# Altium integrated library Infineon_Power_MOSFET.IntLib: 1448 symbols (part 47 of 47)
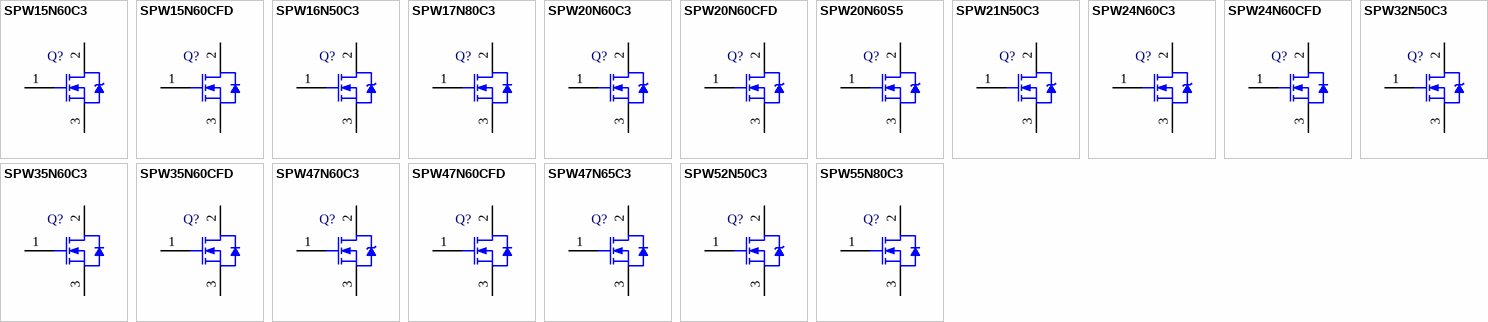
[diagram p83: symbols SPW15N60C3 to SPW55N80C3]

## SPW24N60C3
designator Q?
N-Channel CoolMOS Power-Transistor, 600 V VDS, 24.3 A ID, -55 to 150 degC, PG-TO247-3-44, Tube, Green; Manufacturer: Infineon; PartNumber: SPW24N60C3; Green: TRUE; ID (max): 24.3 A; IDpuls (max): 72.9 A; Polarity: N; Ptot (max): 240 W; QG: 104.9 nC; RDS (on) (max): 160 mOhm; Rth: 0.52 K/W; RthJA (max): 62 K/W; VDS (max): 600 V; VGS(th) (max): 3.9 V; VGS(th) (min): 2.1 V; DatasheetVersion: Rev. 2.5; PackageVersion: Rev. 03; PackageReference: PG-TO247-3-44; PackageDescription: 3-Pin Plastic (Green) Transistor Single Outline Package, 15.94 x 20.95 mm Body, 5.44 mm Pitch; Supplier 1: Mouser; Supplier Part Number 1: 726-SPW24N60C3; Supplier 2: Digi-Key; Supplier Part Number 2: SPW24N60C3IN-ND; Halogen-free: available; Packing: Tube; RthJC (max): 0.52 K/W; Technology: CoolMOS C3; Mounting Technology: Through Hole; ComponentLink1Description: Manufacturer URL; ComponentLink1URL: http://www.infineon.com/; ComponentLink2Description: Datasheet; ComponentLink2URL: http://www.infineon.com/dgdl/SPW24N60C3_Rev%5B1%5D.2.5_PCN.pdf?folderId=db3a304412b407950112b408e8c90004&fileId=db3a304412b407950112b42d61f14867; ComponentLink3Description: Package Specification; ComponentLink3URL: http://www.infineon.com/cms/packages/Leaded_and_through-hole/P-PG-TO247/P-PG-TO247-3-44.html?__locale=en
footprint INF-PG-TO247-3-44 (FM, 3-Leads, Body 5.02x15.94mm, Pitch 5.44mm)
pins: 1 GATE, 2 DRAIN, 3 SOURCE

## SPW24N60CFD
designator Q?
N-Channel CoolMOS Power-Transistor, 600 V VDS, 21.7 A ID, -55 to 150 degC, PG-TO247-3-44, Tube, Green; Manufacturer: Infineon; PartNumber: SPW24N60CFD; Green: TRUE; ID (max): 21.7 A; IDpuls (max): 55 A; Polarity: N; Ptot (max): 240 W; QG: 110 nC; RDS (on) (max): 185 mOhm; Rth: 0.52 K/W; RthJA (max): 62 K/W; VDS (max): 600 V; VGS(th) (max): 5 V; VGS(th) (min): 3 V; DatasheetVersion: Rev. 2.0; PackageVersion: Rev. 03; PackageReference: PG-TO247-3-44; PackageDescription: 3-Pin Plastic (Green) Transistor Single Outline Package, 15.94 x 20.95 mm Body, 5.44 mm Pitch; Supplier 1: Mouser; Supplier Part Number 1: 726-SPW24N60CFD; Supplier 2: Digi-Key; Supplier Part Number 2: SPW24N60CFD-ND; Halogen-free: available; Packing: Tube; RthJC (max): 0.52 K/W; Technology: CoolMOS CFD; Mounting Technology: Through Hole; ComponentLink1Description: Manufacturer URL; ComponentLink1URL: http://www.infineon.com/; ComponentLink2Description: Datasheet; ComponentLink2URL: http://www.infineon.com/dgdl/SPW24N60CFD_rev1%5B1%5D.2_PCN.pdf?folderId=db3a304412b407950112b408e8c90004&fileId=db3a304412b407950112b42e869249e3; ComponentLink3Description: Package Specification; ComponentLink3URL: http://www.infineon.com/cms/packages/Leaded_and_through-hole/P-PG-TO247/P-PG-TO247-3-44.html?__locale=en
footprint INF-PG-TO247-3-44 (FM, 3-Leads, Body 5.02x15.94mm, Pitch 5.44mm)
pins: 1 GATE, 2 DRAIN, 3 SOURCE

## SPW32N50C3
designator Q?
N-Channel CoolMOS Power-Transistor, 500 V VDS, 32 A ID, -55 to 150 degC, PG-TO247-3-44, Tube, Green; Manufacturer: Infineon; PartNumber: SPW32N50C3; Green: TRUE; ID (max): 32 A; IDpuls (max): 96 A; Polarity: N; Ptot (max): 284 W; QG: 170 nC; RDS (on) (max): 110 mOhm; Rth: 0.44 K/W; RthJA (max): 62 K/W; VDS (max): 500 V; VGS(th) (max): 3.9 V; VGS(th) (min): 2.1 V; DatasheetVersion: Rev. 2.5; PackageVersion: Rev. 03; PackageReference: PG-TO247-3-44; PackageDescription: 3-Pin Plastic (Green) Transistor Single Outline Package, 15.94 x 20.95 mm Body, 5.44 mm Pitch; Supplier 1: Mouser; Supplier Part Number 1: 726-SPW32N50C3; Supplier 2: Newark; Supplier Part Number 2: 98K0741; Supplier 3: Farnell; Supplier Part Number 3: 1095707; Supplier 4: Digi-Key; Supplier Part Number 4: SPW32N50C3IN-ND; Halogen-free: available; Packing: Tube; RthJC (max): 0.44 K/W; Technology: CoolMOS C3; Mounting Technology: Through Hole; ComponentLink1Description: Manufacturer URL; ComponentLink1URL: http://www.infineon.com/; ComponentLink2Description: Datasheet; ComponentLink2URL: http://www.infineon.com/dgdl/SPW32N50C3_Rev%5B1%5D.2.5_PCN.pdf?folderId=db3a304412b407950112b408e8c90004&fileId=db3a304412b407950112b42d1edf480e; ComponentLink3Description: Package Specification; ComponentLink3URL: http://www.infineon.com/cms/packages/Leaded_and_through-hole/P-PG-TO247/P-PG-TO247-3-44.html?__locale=en
footprint INF-PG-TO247-3-44 (FM, 3-Leads, Body 5.02x15.94mm, Pitch 5.44mm)
pins: 1 GATE, 2 DRAIN, 3 SOURCE

## SPW35N60C3
designator Q?
N-Channel CoolMOS Power-Transistor, 600 V VDS, 34.6 A ID, -55 to 150 degC, PG-TO247-3-44, Tube, Green; Manufacturer: Infineon; PartNumber: SPW35N60C3; Green: TRUE; ID (max): 34.6 A; IDpuls (max): 103.8 A; Polarity: N; Ptot (max): 313 W; QG: 150 nC; RDS (on) (max): 100 mOhm; Rth: 0.4 K/W; RthJA (max): 62 K/W; VDS (max): 600 V; VGS(th) (max): 3.9 V; VGS(th) (min): 2.1 V; DatasheetVersion: Rev. 2.5; PackageVersion: Rev. 03; PackageReference: PG-TO247-3-44; PackageDescription: 3-Pin Plastic (Green) Transistor Single Outline Package, 15.94 x 20.95 mm Body, 5.44 mm Pitch; Supplier 1: Mouser; Supplier Part Number 1: 726-SPW35N60C3; Supplier 2: Farnell; Supplier Part Number 2: 1471817; Supplier 3: Digi-Key; Supplier Part Number 3: SPW35N60C3IN-ND; Halogen-free: available; Packing: Tube; RthJC (max): 0.4 K/W; Technology: CoolMOS C3; Mounting Technology: Through Hole; ComponentLink1Description: Manufacturer URL; ComponentLink1URL: http://www.infineon.com/; ComponentLink2Description: Datasheet; ComponentLink2URL: http://www.infineon.com/dgdl/SPW35N60C3_Rev%5B1%5D.2.5_PCN.pdf?folderId=db3a3043163797a6011638933eda014b&fileId=db3a3043163797a601163899b120016f; ComponentLink3Description: Package Specification; ComponentLink3URL: http://www.infineon.com/cms/packages/Leaded_and_through-hole/P-PG-TO247/P-PG-TO247-3-44.html?__locale=en
footprint INF-PG-TO247-3-44 (FM, 3-Leads, Body 5.02x15.94mm, Pitch 5.44mm)
pins: 1 GATE, 2 DRAIN, 3 SOURCE

## SPW35N60CFD
designator Q?
N-Channel CoolMOS Power-Transistor, 600 V VDS, 34 A ID, -55 to 150 degC, PG-TO247-3-44, Tube, Green; Manufacturer: Infineon; PartNumber: SPW35N60CFD; Green: TRUE; ID (max): 34 A; IDpuls (max): 85 A; Polarity: N; Ptot (max): 313 W; QG: 163 nC; RDS (on) (max): 120 mOhm; Rth: 0.4 K/W; RthJA (max): 62 K/W; VDS (max): 600 V; VGS(th) (max): 5 V; VGS(th) (min): 3 V; DatasheetVersion: Rev. 1.3; PackageVersion: Rev. 03; PackageReference: PG-TO247-3-44; PackageDescription: 3-Pin Plastic (Green) Transistor Single Outline Package, 15.94 x 20.95 mm Body, 5.44 mm Pitch; Supplier 1: Mouser; Supplier Part Number 1: 726-SPW35N60CFD; Supplier 2: Newark; Supplier Part Number 2: 98K0742; Supplier 3: Farnell; Supplier Part Number 3: 1095708; Supplier 4: Digi-Key; Supplier Part Number 4: SPW35N60CFDIN-ND; Halogen-free: available; Packing: Tube; RthJC (max): 0.4 K/W; Technology: CoolMOS CFD; Mounting Technology: Through Hole; ComponentLink1Description: Manufacturer URL; ComponentLink1URL: http://www.infineon.com/; ComponentLink2Description: Datasheet; ComponentLink2URL: http://www.infineon.com/dgdl/SPW35N60CFD_rev1%5B1%5D.3_PCN.pdf?folderId=db3a304412b407950112b408e8c90004&fileId=db3a304412b407950112b42c05a24651; ComponentLink3Description: Package Specification; ComponentLink3URL: http://www.infineon.com/cms/packages/Leaded_and_through-hole/P-PG-TO247/P-PG-TO247-3-44.html?__locale=en
footprint INF-PG-TO247-3-44 (FM, 3-Leads, Body 5.02x15.94mm, Pitch 5.44mm)
pins: 1 GATE, 2 DRAIN, 3 SOURCE

## SPW47N60C3
designator Q?
N-Channel CoolMOS Power-Transistor, 600 V VDS, 47 A ID, -55 to 150 degC, PG-TO247-3-44, Tube, Green; Manufacturer: Infineon; PartNumber: SPW47N60C3; Green: TRUE; ID (max): 47 A; IDpuls (max): 141 A; Polarity: N; Ptot (max): 415 W; QG: 252 nC; RDS (on) (max): 70 mOhm; Rth: 0.3 K/W; RthJA (max): 62 K/W; VDS (max): 600 V; VGS(th) (max): 3.9 V; VGS(th) (min): 2.1 V; DatasheetVersion: Rev. 2.6; PackageVersion: Rev. 03; PackageReference: PG-TO247-3-44; PackageDescription: 3-Pin Plastic (Green) Transistor Single Outline Package, 15.94 x 20.95 mm Body, 5.44 mm Pitch; Supplier 1: Mouser; Supplier Part Number 1: 726-SPW47N60C3; Supplier 2: Newark; Supplier Part Number 2: 98K0744; Supplier 3: Farnell; Supplier Part Number 3: 1056557; Supplier 4: Digi-Key; Supplier Part Number 4: SPW47N60C3IN-ND; Halogen-free: available; Packing: Tube; RthJC (max): 0.3 K/W; Technology: CoolMOS C3; Mounting Technology: Through Hole; ComponentLink1Description: Manufacturer URL; ComponentLink1URL: http://www.infineon.com/; ComponentLink2Description: Datasheet; ComponentLink2URL: http://www.infineon.com/dgdl/SPW47N60C3_Rev%5B1%5D.2.6_PCN.pdf?folderId=db3a304412b407950112b408e8c90004&fileId=db3a304412b407950112b42dff93492f; ComponentLink3Description: Package Specification; ComponentLink3URL: http://www.infineon.com/cms/packages/Leaded_and_through-hole/P-PG-TO247/P-PG-TO247-3-44.html?__locale=en
footprint INF-PG-TO247-3-44 (FM, 3-Leads, Body 5.02x15.94mm, Pitch 5.44mm)
pins: 1 GATE, 2 DRAIN, 3 SOURCE

## SPW47N60CFD
designator Q?
N-Channel CoolMOS Power-Transistor, 600 V VDS, 46 A ID, -55 to 150 degC, PG-TO247-3-44, Tube, Green; Manufacturer: Infineon; PartNumber: SPW47N60CFD; Green: TRUE; ID (max): 46 A; IDpuls (max): 115 A; Polarity: N; Ptot (max): 417 W; QG: 248 nC; RDS (on) (max): 83 mOhm; Rth: 0.3 K/W; RthJA (max): 62 K/W; VDS (max): 600 V; VGS(th) (max): 5 V; VGS(th) (min): 3 V; DatasheetVersion: Rev. 1.3; PackageVersion: Rev. 03; PackageReference: PG-TO247-3-44; PackageDescription: 3-Pin Plastic (Green) Transistor Single Outline Package, 15.94 x 20.95 mm Body, 5.44 mm Pitch; Supplier 1: Mouser; Supplier Part Number 1: 726-SPW47N60CFD; Supplier 2: Digi-Key; Supplier Part Number 2: SPW47N60CFDIN-ND; Halogen-free: available; Packing: Tube; RthJC (max): 0.3 K/W; Technology: CoolMOS CFD; Mounting Technology: Through Hole; ComponentLink1Description: Manufacturer URL; ComponentLink1URL: http://www.infineon.com/; ComponentLink2Description: Datasheet; ComponentLink2URL: http://www.infineon.com/dgdl/SPW47N60CFD_rev1%5B1%5D.3_PCN.pdf?folderId=db3a304412b407950112b408e8c90004&fileId=db3a304412b407950112b42c088f4655; ComponentLink3Description: Package Specification; ComponentLink3URL: http://www.infineon.com/cms/packages/Leaded_and_through-hole/P-PG-TO247/P-PG-TO247-3-44.html?__locale=en
footprint INF-PG-TO247-3-44 (FM, 3-Leads, Body 5.02x15.94mm, Pitch 5.44mm)
pins: 1 GATE, 2 DRAIN, 3 SOURCE

## SPW47N65C3
designator Q?
N-Channel CoolMOS Power-Transistor, 650 V VDS, 47 A ID, -55 to 150 degC, PG-TO247-3-44, Tube, Green; Manufacturer: Infineon; PartNumber: SPW47N65C3; Green: TRUE; ID (max): 47 A; IDpuls (max): 141 A; Polarity: N; Ptot (max): 415 W; QG: 255 nC; RDS (on) (max): 70 mOhm; Rth: 0.3 K/W; RthJA (max): 62 K/W; VDS (max): 650 V; VGS(th) (max): 3.9 V; VGS(th) (min): 2.1 V; DatasheetVersion: Rev. 1.2; PackageVersion: Rev. 03; PackageReference: PG-TO247-3-44; PackageDescription: 3-Pin Plastic (Green) Transistor Single Outline Package, 15.94 x 20.95 mm Body, 5.44 mm Pitch; Supplier 1: Mouser; Supplier Part Number 1: 726-SPW47N65C3; Supplier 2: Digi-Key; Supplier Part Number 2: SPW47N65C3-ND; Halogen-free: available; Packing: Tube; RthJC (max): 0.3 K/W; Technology: CoolMOS C3; Mounting Technology: Through Hole; ComponentLink1Description: Manufacturer URL; ComponentLink1URL: http://www.infineon.com/; ComponentLink2Description: Datasheet; ComponentLink2URL: http://www.infineon.com/dgdl/SPW47N65C3_Preliminary_1_2_PCN.pdf?folderId=db3a304412b407950112b408e8c90004&fileId=db3a304412b407950112b42eb1444a1f; ComponentLink3Description: Package Specification; ComponentLink3URL: http://www.infineon.com/cms/packages/Leaded_and_through-hole/P-PG-TO247/P-PG-TO247-3-44.html?__locale=en
footprint INF-PG-TO247-3-44 (FM, 3-Leads, Body 5.02x15.94mm, Pitch 5.44mm)
pins: 1 GATE, 2 DRAIN, 3 SOURCE

## SPW52N50C3
designator Q?
N-Channel CoolMOS Power-Transistor, 500 V VDS, 52 A ID, -55 to 150 degC, PG-TO247-3-44, Tube, Green; Manufacturer: Infineon; PartNumber: SPW52N50C3; Green: TRUE; ID (max): 52 A; IDpuls (max): 156 A; Polarity: N; Ptot (max): 417 W; QG: 290 nC; RDS (on) (max): 70 mOhm; Rth: 0.3 K/W; RthJA (max): 62 K/W; VDS (max): 500 V; VGS(th) (max): 3.9 V; VGS(th) (min): 2.1 V; DatasheetVersion: Rev. 2.6; PackageVersion: Rev. 03; PackageReference: PG-TO247-3-44; PackageDescription: 3-Pin Plastic (Green) Transistor Single Outline Package, 15.94 x 20.95 mm Body, 5.44 mm Pitch; Supplier 1: Mouser; Supplier Part Number 1: 726-SPW52N50C3; Supplier 2: Newark; Supplier Part Number 2: 98K0745; Supplier 3: Farnell; Supplier Part Number 3: 1095710; Supplier 4: Digi-Key; Supplier Part Number 4: SPW52N50C3IN-ND; Packing: Tube; RthJC (max): 0.3 K/W; Technology: CoolMOS C3; Mounting Technology: Through Hole; ComponentLink1Description: Manufacturer URL; ComponentLink1URL: http://www.infineon.com/; ComponentLink2Description: Datasheet; ComponentLink2URL: http://www.infineon.com/dgdl/SPW52N50C3_Rev1+2+6_PCN12.pdf?folderId=db3a304412b407950112b408e8c90004&fileId=db3a304412b407950112b42d227d4812; ComponentLink3Description: Package Specification; ComponentLink3URL: http://www.infineon.com/cms/packages/Leaded_and_through-hole/P-PG-TO247/P-PG-TO247-3-44.html?__locale=en
footprint INF-PG-TO247-3-44 (FM, 3-Leads, Body 5.02x15.94mm, Pitch 5.44mm)
pins: 1 GATE, 2 DRAIN, 3 SOURCE

## SPW55N80C3
designator Q?
N-Channel CoolMOS C3 Power-Transistor, 800 V VDS, 54.9 A ID, -55 to 150 degC, PG-TO247-3-44, Tube, Green; Manufacturer: Infineon; PartNumber: SPW55N80C3; Green: TRUE; ID (max): 54.9 A; IDpuls (max): 150 A; Polarity: N; Ptot (max): 500 W; QG: 288 nC; RDS (on) (max): 85 mOhm; Rth: 0.25 K/W; RthJA (max): 62 K/W; VDS (max): 800 V; VGS(th) (max): 3.9 V; VGS(th) (min): 2.1 V; DatasheetVersion: Rev. 2.0; PackageVersion: Rev. 03; PackageReference: PG-TO247-3-44; PackageDescription: 3-Pin Plastic (Green) Transistor Single Outline Package, 15.94 x 20.95 mm Body, 5.44 mm Pitch; Halogen-free: available; Packing: Tube; RthJC (max): 0.25 K/W; Technology: CoolMOS C3; Mounting Technology: Through Hole; ComponentLink1Description: Manufacturer URL; ComponentLink1URL: http://www.infineon.com/; ComponentLink2Description: Datasheet; ComponentLink2URL: http://www.infineon.com/dgdl/SPW55N80C3_2_0.pdf?folderId=db3a3043163797a6011637d4bae7003b&fileId=db3a3043337a914d0133878821c910bb; ComponentLink3Description: Package Specification; ComponentLink3URL: http://www.infineon.com/cms/packages/Leaded_and_through-hole/P-PG-TO247/P-PG-TO247-3-44.html?__locale=en
footprint INF-PG-TO247-3-44 (FM, 3-Leads, Body 5.02x15.94mm, Pitch 5.44mm)
pins: 1 GATE, 2 DRAIN, 3 SOURCE